# EAGLE library part 68612614122 (library Eagle_FPC_CONNECTOR_AND_FFC_CAB (rev18c))
WR-FPC 1.00mm SMT ZIF Horizontal Top Contact, 26 Pins=>Code : Con_FPC_ZIF_1.00_68612614122 <http://katalog.we-online.de/media/images/eican/Con_FPC_ZIF_1.00_6861xx14122_pf2.jpg> Details see: http://katalog.we-online.de/en/em/686_1xx_141_22 Created 2014-07-09, Karrer Zheng 2014 (C) Würth Elektronik
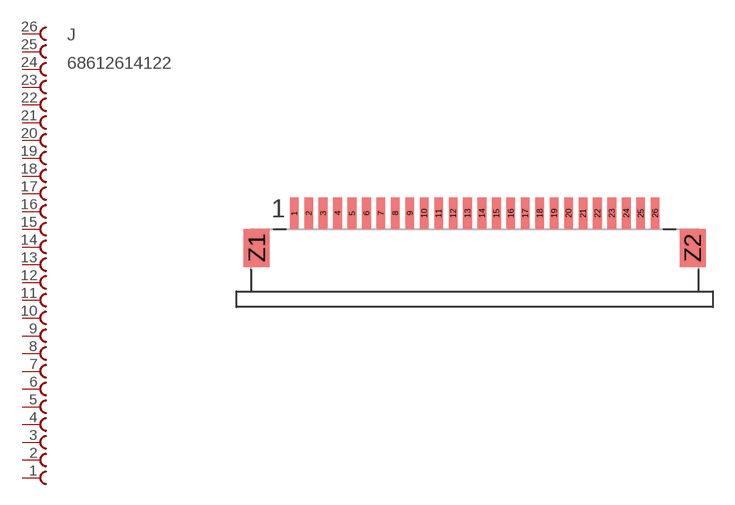
[diagram p50: symbol with the pads of 68612614122; footprint 68612614122]

Designator prefix J

## 68612614122  [68612614122]
1  26  pas
2  25  pas
3  24  pas
4  23  pas
5  22  pas
6  21  pas
7  20  pas
8  19  pas
9  18  pas
10  17  pas
11  16  pas
12  15  pas
13  14  pas
14  13  pas
15  12  pas
16  11  pas
17  10  pas
18  9  pas
19  8  pas
20  7  pas
21  6  pas
22  5  pas
23  4  pas
24  3  pas
25  2  pas
26  1  pas

## Footprint 68612614122 (pad centres in mm)
WR-FPC 1.00mm SMT ZIF Horizontal Top Contact, 26 Pins
smd 0.6 x 2.2: 1 -12.5,2.4; 2 -11.5,2.4; 3 -10.5,2.4; 4 -9.5,2.4; 5 -8.5,2.4; 6 -7.5,2.4; 7 -6.5,2.4; 8 -5.5,2.4; 9 -4.5,2.4; 10 -3.5,2.4; 11 -2.5,2.4; 12 -1.5,2.4; 13 -0.5,2.4; 14 0.5,2.4; 15 1.5,2.4; 16 2.5,2.4; 17 3.5,2.4; 18 4.5,2.4; 19 5.5,2.4; 20 6.5,2.4; 21 7.5,2.4; 22 8.5,2.4; 23 9.5,2.4; 24 10.5,2.4; 25 11.5,2.4; 26 12.5,2.4
smd 1.8 x 2.6: Z1 -15.1,0; Z2 15.1,0